# EAGLE library part TLV3502AIDCNR (library Hocki_library )
Comparator General Purpose CMOS, Push-Pull, Rail-to-Rail, TTL SOT-23-8 DigiKey <https://www.digikey.com/product-detail/en/texas-instruments/TLV3502AIDCNR/296-39267-1-ND/5143259>
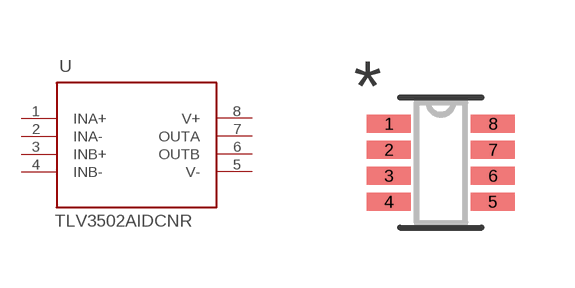
[diagram p4: symbol with the pads of SOT-23-8; footprint SOT-23-8]

Designator prefix U

## TLV3502AIDCNR (DKPN: 296-39267-1-ND)  [SOT-23-8]
1  INA+  pas
2  INA-  pas
3  INB+  pas
4  INB-  pas
5  V-  pas
6  OUTB  pas
7  OUTA  pas
8  V+  pas

## Footprint SOT-23-8 (pad centres in mm)
smd 1.1 x 0.45: 1 -1.3,0.975; 2 -1.3,0.325; 3 -1.3,-0.325; 4 -1.3,-0.975; 5 1.3,-0.975; 6 1.3,-0.325; 7 1.3,0.325; 8 1.3,0.975